# Altium schematic symbol library Banana-3.5-F.Schlib: 1 symbol
Pins are listed as number, name and electrical type; pins without a type are passive.

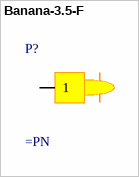
[diagram p0: symbol Banana-3.5-F]

## Banana-3.5-F
designator P?
Banana 3.5mm Female
pins: 1